# Altium footprint library wch554e.PcbLib: 18 footprints (part 2 of 2)
Each footprint in its own frame and in the unit in brackets; x right, y up, seen from the top. Pads: shape width x height; smd on the part's side, far side on the other; paste and mask are expansions set on the pad; w line width, h text height; cw(c..) or ccw(c..) is an arc to the next point about the centre after c.
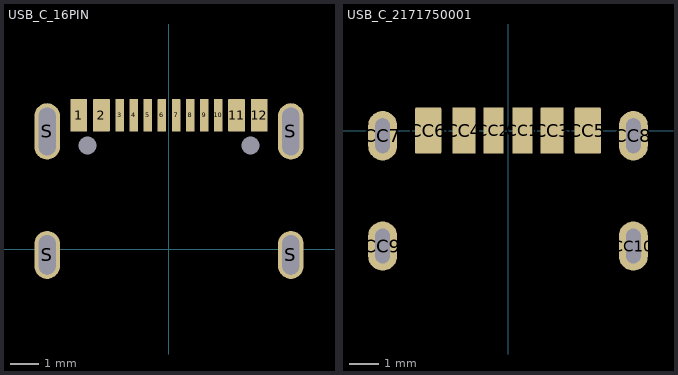
[diagram p1: the footprints below, top view; thin cyan lines are the x and y axes]

## USB_C_16PIN [mm]
pads (18):
  rrect10% 0.6x1.15 smd paste-2539.97 mask+0: 1(-3.2,4.75) 2(-2.4,4.75) 11(2.4,4.75) 12(3.2,4.75)
  rrect10% 0.3x1.15 smd paste-2539.97 mask+0: 3(-1.75,4.75) 4(-1.25,4.75) 5(-0.75,4.75) 6(-0.25,4.75) 7(0.25,4.75) 8(0.75,4.75) 9(1.25,4.75) 10(1.75,4.75)
  oval 0.9x1.7 hole 0.6 slot 1.4 at 90 deg: S(-4.32,-0.2) S(4.32,-0.2)
  oval 0.9x2 hole 0.6 slot 1.7 at 90 deg: S(-4.32,4.18) S(4.32,4.18)
  round 0 hole 0.65 unplated paste-2539.97 mask+0: SHELL1(-2.89,3.68) SHELL1(2.89,3.68)
3D body "usb-c_16pins_vertical.step": height 3.2, standoff -1, extent -4.5,-2.9 4.5,5.15

## USB_C_2171750001 [mm]
pads (10):
  rrect10% 0.7x1.6 smd mask+0: CC1(0.5,0) CC2(-0.5,0)
  rrect10% 0.8x1.6 smd mask+0: CC3(1.52,0) CC4(-1.52,0)
  rrect10% 0.9x1.6 smd mask+0: CC5(2.75,0) CC6(-2.75,0)
  oval 1x1.7 hole 0.5 slot 1.2 at 90 deg mask+0: CC7(-4.32,-0.18) CC9(-4.32,-3.98)
  oval 1x1.7 hole 0.5 slot 1.2 at 90 deg: CC8(4.32,-0.18) CC10(4.32,-3.98)
3D body "2171750001.stp": height 3.23, standoff -1.93, extent -4.47,-6.6 4.47,0.3